# Altium integrated library Actel IGLOO PLUS.IntLib: 96 symbols (part 12 of 12)
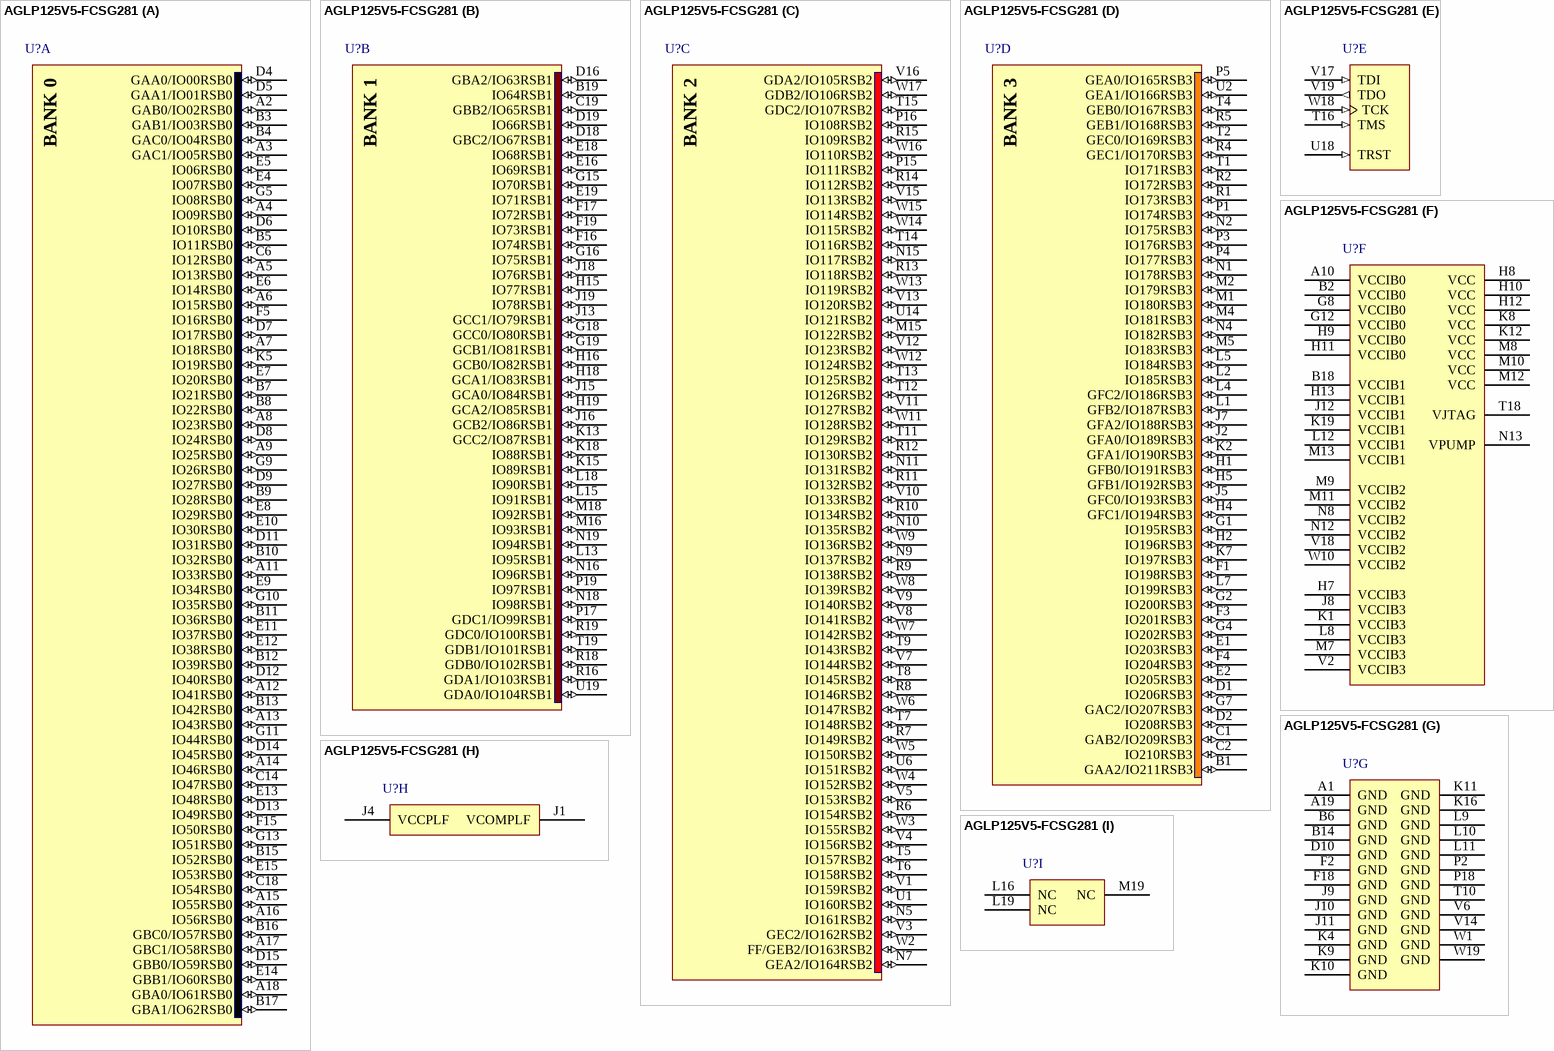
[diagram p75: symbol AGLP125V5-FCSG281]

## AGLP125V5-FCSG281
designator U?
IGLOO PLUS Low-Power Flash 1.5V FPGA with Flash*Freeze, 212 User IOs, 125K System Gates, 1Kbit Flash ROM, 281-Pin CSP, F Speed Grade, Commercial Grade, Pb-Free; ComponentAvailability: F speed grade removed in ver1.5, Apr-2009 datasheet.; Published: 29-May-2009; DatasheetVersion: v1.4, Feb-2009; PackageVersion: ver11.2, Nov-2009; PackageReference: CS281; Publisher: Altium Limited; PackageDescription: 281-Ball Chip Scale Ball Grid Array 0.5 mm Pitch (CS281); Code_JEDEC: MO-195-AG (Depopulated); ComponentLink1Description: IGLOO PLUS Datasheet; ComponentLink1URL: http://www.actel.com/documents/IGLOOPLUS_DS.pdf; ComponentLink2Description: Package Mechanical Drawings; ComponentLink2URL: http://www.actel.com/documents/PckgMechDrwngs.pdf; ComponentLink3Description: IGLOO PLUS Documents; ComponentLink3URL: http://www.actel.com/products/iglooplus/docs.aspx; ComponentLink4Description: Actel.com Home; ComponentLink4URL: http://www.actel.com/
footprint CS281 (BGA, 281-Leads, Body 10x10mm, Pitch 0.5mm)
3D model AGLP125-CS281 (281-Ball Chip Scale Ball Grid Array 0.5 mm Pitch (CS281))
signal-integrity model AGLP125-CS281 (IGLOO PLUS)
part A pins: A2 GAB0/IO02RSB0 (io), A3 GAC1/IO05RSB0 (io), A4 IO09RSB0 (io), A5 IO13RSB0 (io), A6 IO15RSB0 (io), A7 IO18RSB0 (io), A8 IO23RSB0 (io), A9 IO25RSB0 (io), A11 IO33RSB0 (io), A12 IO41RSB0 (io), A13 IO43RSB0 (io), A14 IO46RSB0 (io), A15 IO55RSB0 (io), A16 IO56RSB0 (io), A17 GBC1/IO58RSB0 (io), A18 GBA0/IO61RSB0 (io), B3 GAB1/IO03RSB0 (io), B4 GAC0/IO04RSB0 (io), B5 IO11RSB0 (io), B7 IO21RSB0 (io), B8 IO22RSB0 (io), B9 IO28RSB0 (io), B10 IO32RSB0 (io), B11 IO36RSB0 (io), B12 IO39RSB0 (io), B13 IO42RSB0 (io), B15 IO52RSB0 (io), B16 GBC0/IO57RSB0 (io), B17 GBA1/IO62RSB0 (io), C6 IO12RSB0 (io), C14 IO47RSB0 (io), C18 IO54RSB0 (io), D4 GAA0/IO00RSB0 (io), D5 GAA1/IO01RSB0 (io), D6 IO10RSB0 (io), D7 IO17RSB0 (io), D8 IO24RSB0 (io), D9 IO27RSB0 (io), D11 IO31RSB0 (io), D12 IO40RSB0 (io), D13 IO49RSB0 (io), D14 IO45RSB0 (io), D15 GBB0/IO59RSB0 (io), E4 IO07RSB0 (io), E5 IO06RSB0 (io), E6 IO14RSB0 (io), E7 IO20RSB0 (io), E8 IO29RSB0 (io), E9 IO34RSB0 (io), E10 IO30RSB0 (io), E11 IO37RSB0 (io), E12 IO38RSB0 (io), E13 IO48RSB0 (io), E14 GBB1/IO60RSB0 (io), E15 IO53RSB0 (io), F5 IO16RSB0 (io), F15 IO50RSB0 (io), G5 IO08RSB0 (io), G9 IO26RSB0 (io), G10 IO35RSB0 (io), G11 IO44RSB0 (io), G13 IO51RSB0 (io), K5 IO19RSB0 (io)
part B pins: B19 IO64RSB1 (io), C19 GBB2/IO65RSB1 (io), D16 GBA2/IO63RSB1 (io), D18 GBC2/IO67RSB1 (io), D19 IO66RSB1 (io), E16 IO69RSB1 (io), E18 IO68RSB1 (io), E19 IO71RSB1 (io), F16 IO74RSB1 (io), F17 IO72RSB1 (io), F19 IO73RSB1 (io), G15 IO70RSB1 (io), G16 IO75RSB1 (io), G18 GCC0/IO80RSB1 (io), G19 GCB1/IO81RSB1 (io), H15 IO77RSB1 (io), H16 GCB0/IO82RSB1 (io), H18 GCA1/IO83RSB1 (io), H19 GCA2/IO85RSB1 (io), J13 GCC1/IO79RSB1 (io), J15 GCA0/IO84RSB1 (io), J16 GCB2/IO86RSB1 (io), J18 IO76RSB1 (io), J19 IO78RSB1 (io), K13 GCC2/IO87RSB1 (io), K15 IO89RSB1 (io), K18 IO88RSB1 (io), L13 IO95RSB1 (io), L15 IO91RSB1 (io), L18 IO90RSB1 (io), M16 IO93RSB1 (io), M18 IO92RSB1 (io), N16 IO96RSB1 (io), N18 IO98RSB1 (io), N19 IO94RSB1 (io), P17 GDC1/IO99RSB1 (io), P19 IO97RSB1 (io), R16 GDA1/IO103RSB1 (io), R18 GDB0/IO102RSB1 (io), R19 GDC0/IO100RSB1 (io), T19 GDB1/IO101RSB1 (io), U19 GDA0/IO104RSB1 (io)
part C pins: M15 IO122RSB2 (io), N5 IO161RSB2 (io), N7 GEA2/IO164RSB2 (io), N9 IO137RSB2 (io), N10 IO135RSB2 (io), N11 IO131RSB2 (io), N15 IO117RSB2 (io), P15 IO111RSB2 (io), P16 IO108RSB2 (io), R6 IO154RSB2 (io), R7 IO149RSB2 (io), R8 IO146RSB2 (io), R9 IO138RSB2 (io), R10 IO134RSB2 (io), R11 IO132RSB2 (io), R12 IO130RSB2 (io), R13 IO118RSB2 (io), R14 IO112RSB2 (io), R15 IO109RSB2 (io), T5 IO157RSB2 (io), T6 IO158RSB2 (io), T7 IO148RSB2 (io), T8 IO145RSB2 (io), T9 IO143RSB2 (io), T11 IO129RSB2 (io), T12 IO126RSB2 (io), T13 IO125RSB2 (io), T14 IO116RSB2 (io), T15 GDC2/IO107RSB2 (io), U1 IO160RSB2 (io), U6 IO151RSB2 (io), U14 IO121RSB2 (io), V1 IO159RSB2 (io), V3 GEC2/IO162RSB2 (io), V4 IO156RSB2 (io), V5 IO153RSB2 (io), V7 IO144RSB2 (io), V8 IO141RSB2 (io), V9 IO140RSB2 (io), V10 IO133RSB2 (io), V11 IO127RSB2 (io), V12 IO123RSB2 (io), V13 IO120RSB2 (io), V15 IO113RSB2 (io), V16 GDA2/IO105RSB2 (io), W2 FF/GEB2/IO163RSB2 (io), W3 IO155RSB2 (io), W4 IO152RSB2 (io), W5 IO150RSB2 (io), W6 IO147RSB2 (io), W7 IO142RSB2 (io), W8 IO139RSB2 (io), W9 IO136RSB2 (io), W11 IO128RSB2 (io), W12 IO124RSB2 (io), W13 IO119RSB2 (io), W14 IO115RSB2 (io), W15 IO114RSB2 (io), W16 IO110RSB2 (io), W17 GDB2/IO106RSB2 (io)
part D pins: B1 GAA2/IO211RSB3 (io), C1 GAB2/IO209RSB3 (io), C2 IO210RSB3 (io), D1 IO206RSB3 (io), D2 IO208RSB3 (io), E1 IO203RSB3 (io), E2 IO205RSB3 (io), F1 IO198RSB3 (io), F3 IO201RSB3 (io), F4 IO204RSB3 (io), G1 IO195RSB3 (io), G2 IO200RSB3 (io), G4 IO202RSB3 (io), G7 GAC2/IO207RSB3 (io), H1 GFB0/IO191RSB3 (io), H2 IO196RSB3 (io), H4 GFC1/IO194RSB3 (io), H5 GFB1/IO192RSB3 (io), J2 GFA0/IO189RSB3 (io), J5 GFC0/IO193RSB3 (io), J7 GFA2/IO188RSB3 (io), K2 GFA1/IO190RSB3 (io), K7 IO197RSB3 (io), L1 GFB2/IO187RSB3 (io), L2 IO185RSB3 (io), L4 GFC2/IO186RSB3 (io), L5 IO184RSB3 (io), L7 IO199RSB3 (io), M1 IO180RSB3 (io), M2 IO179RSB3 (io), M4 IO181RSB3 (io), M5 IO183RSB3 (io), N1 IO178RSB3 (io), N2 IO175RSB3 (io), N4 IO182RSB3 (io), P1 IO174RSB3 (io), P3 IO176RSB3 (io), P4 IO177RSB3 (io), P5 GEA0/IO165RSB3 (io), R1 IO173RSB3 (io), R2 IO172RSB3 (io), R4 GEC1/IO170RSB3 (io), R5 GEB1/IO168RSB3 (io), T1 IO171RSB3 (io), T2 GEC0/IO169RSB3 (io), T4 GEB0/IO167RSB3 (io), U2 GEA1/IO166RSB3 (io)
part E pins: T16 TMS (in), U18 TRST (in), V17 TDI (in), V19 TDO (out), W18 TCK (in)
part F pins: A10 VCCIB0 (power), B2 VCCIB0 (power), B18 VCCIB1 (power), G8 VCCIB0 (power), G12 VCCIB0 (power), H7 VCCIB3 (power), H8 VCC (power), H9 VCCIB0 (power), H10 VCC (power), H11 VCCIB0 (power), H12 VCC (power), H13 VCCIB1 (power), J8 VCCIB3 (power), J12 VCCIB1 (power), K1 VCCIB3 (power), K8 VCC (power), K12 VCC (power), K19 VCCIB1 (power), L8 VCCIB3 (power), L12 VCCIB1 (power), M7 VCCIB3 (power), M8 VCC (power), M9 VCCIB2 (power), M10 VCC (power), M11 VCCIB2 (power), M12 VCC (power), M13 VCCIB1 (power), N8 VCCIB2 (power), N12 VCCIB2 (power), N13 VPUMP (power), T18 VJTAG (power), V2 VCCIB3 (power), V18 VCCIB2 (power), W10 VCCIB2 (power)
part G pins: A1 GND (power), A19 GND (power), B6 GND (power), B14 GND (power), D10 GND (power), F2 GND (power), F18 GND (power), J9 GND (power), J10 GND (power), J11 GND (power), K4 GND (power), K9 GND (power), K10 GND (power), K11 GND (power), K16 GND (power), L9 GND (power), L10 GND (power), L11 GND (power), P2 GND (power), P18 GND (power), T10 GND (power), V6 GND (power), V14 GND (power), W1 GND (power), W19 GND (power)
part H pins: J1 VCOMPLF (power), J4 VCCPLF (power)
part I pins: L16 NC, L19 NC, M19 NC
part A text: BANK 0
part B text: BANK 1
part C text: BANK 2
part D text: BANK 3

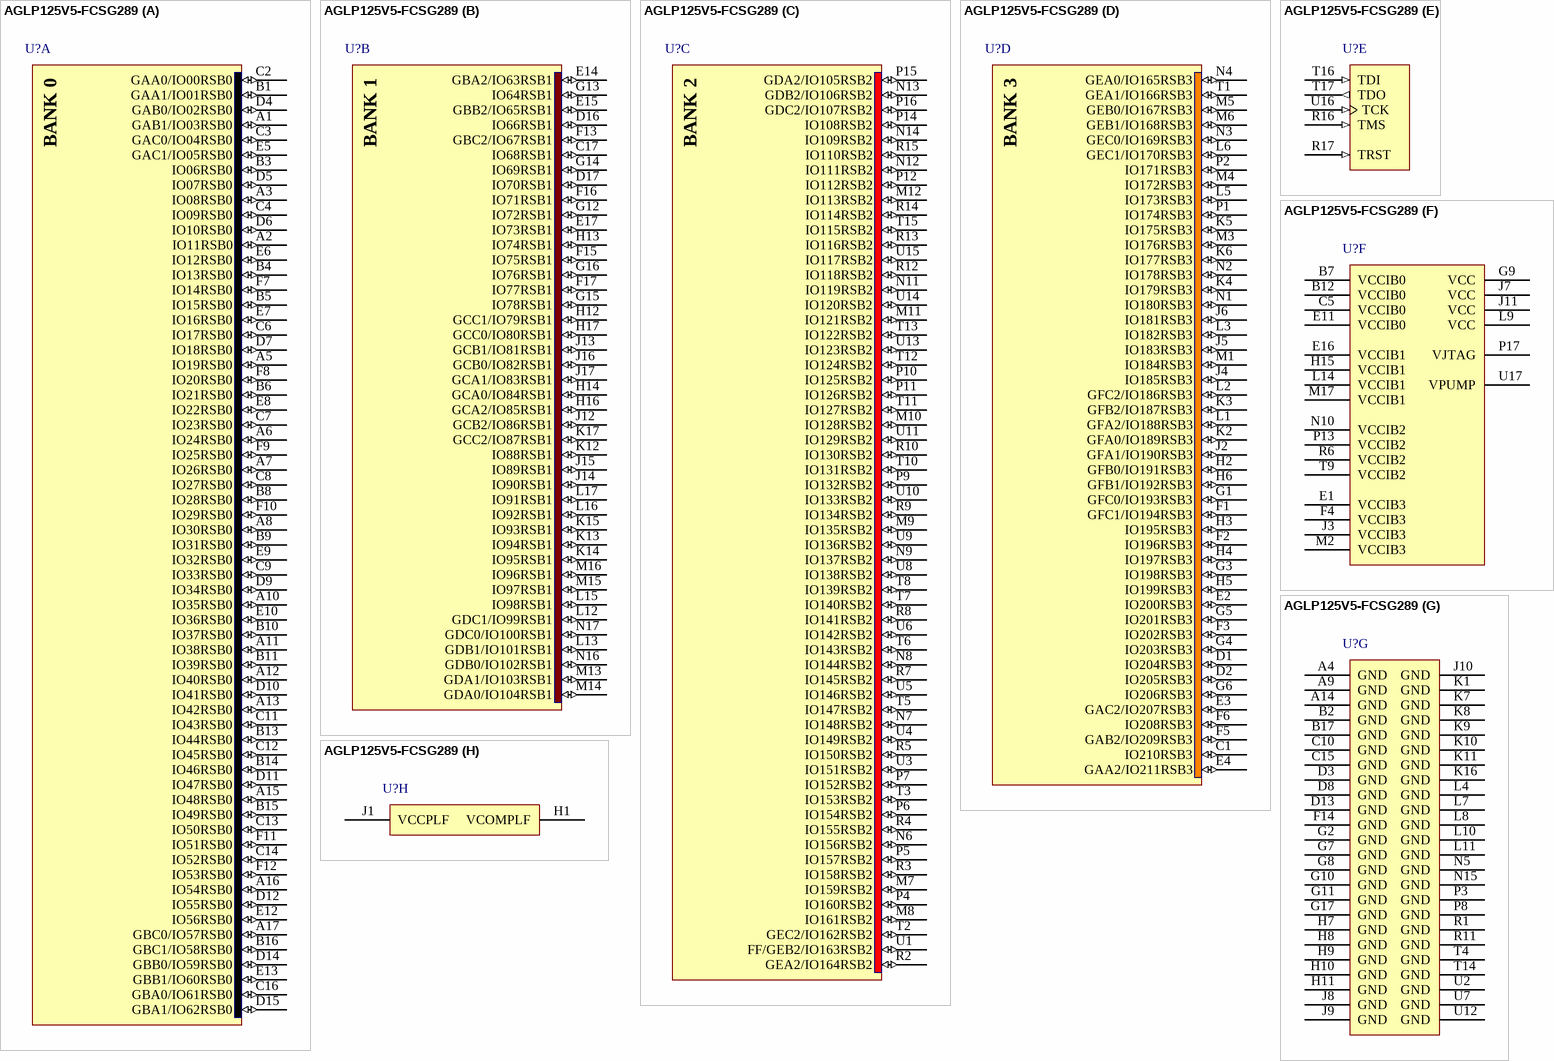
[diagram p64: symbol AGLP125V5-FCSG289]

## AGLP125V5-FCSG289
designator U?
IGLOO PLUS Low-Power Flash 1.5V FPGA with Flash*Freeze, 212 User IOs, 125K System Gates, 1Kbit Flash ROM, 289-Pin CSP, F Speed Grade, Commercial Grade, Pb-Free; ComponentAvailability: F speed grade removed in ver1.5, Apr-2009 datasheet.; Published: 29-May-2009; DatasheetVersion: v1.4, Feb-2009; PackageVersion: ver11.2, Nov-2009; PackageReference: CS289; Publisher: Altium Limited; PackageDescription: 289-Ball Chip Scale Package 0.8 mm Pitch (CS289); ComponentLink1Description: IGLOO PLUS Datasheet; ComponentLink1URL: http://www.actel.com/documents/IGLOOPLUS_DS.pdf; ComponentLink2Description: Package Mechanical Drawings; ComponentLink2URL: http://www.actel.com/documents/PckgMechDrwngs.pdf; ComponentLink3Description: IGLOO PLUS Documents; ComponentLink3URL: http://www.actel.com/products/iglooplus/docs.aspx; ComponentLink4Description: Actel.com Home; ComponentLink4URL: http://www.actel.com/
footprint CS289 (BGA, 289-Leads, Body 14x14mm, Pitch 0.8mm)
3D model AGLP125-CS289 (289-Ball Chip Scale Package 0.8 mm Pitch (CS289))
signal-integrity model AGLP125-CS289 (IGLOO PLUS)
part A pins: A1 GAB1/IO03RSB0 (io), A2 IO11RSB0 (io), A3 IO08RSB0 (io), A5 IO19RSB0 (io), A6 IO24RSB0 (io), A7 IO26RSB0 (io), A8 IO30RSB0 (io), A10 IO35RSB0 (io), A11 IO38RSB0 (io), A12 IO40RSB0 (io), A13 IO42RSB0 (io), A15 IO48RSB0 (io), A16 IO54RSB0 (io), A17 GBC0/IO57RSB0 (io), B1 GAA1/IO01RSB0 (io), B3 IO06RSB0 (io), B4 IO13RSB0 (io), B5 IO15RSB0 (io), B6 IO21RSB0 (io), B8 IO28RSB0 (io), B9 IO31RSB0 (io), B10 IO37RSB0 (io), B11 IO39RSB0 (io), B13 IO44RSB0 (io), B14 IO46RSB0 (io), B15 IO49RSB0 (io), B16 GBC1/IO58RSB0 (io), C2 GAA0/IO00RSB0 (io), C3 GAC0/IO04RSB0 (io), C4 IO09RSB0 (io), C6 IO17RSB0 (io), C7 IO23RSB0 (io), C8 IO27RSB0 (io), C9 IO33RSB0 (io), C11 IO43RSB0 (io), C12 IO45RSB0 (io), C13 IO50RSB0 (io), C14 IO52RSB0 (io), C16 GBA0/IO61RSB0 (io), D4 GAB0/IO02RSB0 (io), D5 IO07RSB0 (io), D6 IO10RSB0 (io), D7 IO18RSB0 (io), D9 IO34RSB0 (io), D10 IO41RSB0 (io), D11 IO47RSB0 (io), D12 IO55RSB0 (io), D14 GBB0/IO59RSB0 (io), D15 GBA1/IO62RSB0 (io), E5 GAC1/IO05RSB0 (io), E6 IO12RSB0 (io), E7 IO16RSB0 (io), E8 IO22RSB0 (io), E9 IO32RSB0 (io), E10 IO36RSB0 (io), E12 IO56RSB0 (io), E13 GBB1/IO60RSB0 (io), F7 IO14RSB0 (io), F8 IO20RSB0 (io), F9 IO25RSB0 (io), F10 IO29RSB0 (io), F11 IO51RSB0 (io), F12 IO53RSB0 (io)
part B pins: C17 IO68RSB1 (io), D16 IO66RSB1 (io), D17 IO70RSB1 (io), E14 GBA2/IO63RSB1 (io), E15 GBB2/IO65RSB1 (io), E17 IO73RSB1 (io), F13 GBC2/IO67RSB1 (io), F15 IO75RSB1 (io), F16 IO71RSB1 (io), F17 IO77RSB1 (io), G12 IO72RSB1 (io), G13 IO64RSB1 (io), G14 IO69RSB1 (io), G15 IO78RSB1 (io), G16 IO76RSB1 (io), H12 GCC1/IO79RSB1 (io), H13 IO74RSB1 (io), H14 GCA0/IO84RSB1 (io), H16 GCA2/IO85RSB1 (io), H17 GCC0/IO80RSB1 (io), J12 GCB2/IO86RSB1 (io), J13 GCB1/IO81RSB1 (io), J14 IO90RSB1 (io), J15 IO89RSB1 (io), J16 GCB0/IO82RSB1 (io), J17 GCA1/IO83RSB1 (io), K12 IO88RSB1 (io), K13 IO94RSB1 (io), K14 IO95RSB1 (io), K15 IO93RSB1 (io), K17 GCC2/IO87RSB1 (io), L12 GDC1/IO99RSB1 (io), L13 GDB1/IO101RSB1 (io), L15 IO98RSB1 (io), L16 IO92RSB1 (io), L17 IO91RSB1 (io), M13 GDA1/IO103RSB1 (io), M14 GDA0/IO104RSB1 (io), M15 IO97RSB1 (io), M16 IO96RSB1 (io), N16 GDB0/IO102RSB1 (io), N17 GDC0/IO100RSB1 (io)
part C pins: M7 IO159RSB2 (io), M8 IO161RSB2 (io), M9 IO135RSB2 (io), M10 IO128RSB2 (io), M11 IO121RSB2 (io), M12 IO113RSB2 (io), N6 IO156RSB2 (io), N7 IO148RSB2 (io), N8 IO144RSB2 (io), N9 IO137RSB2 (io), N11 IO119RSB2 (io), N12 IO111RSB2 (io), N13 GDB2/IO106RSB2 (io), N14 IO109RSB2 (io), P4 IO160RSB2 (io), P5 IO157RSB2 (io), P6 IO154RSB2 (io), P7 IO152RSB2 (io), P9 IO132RSB2 (io), P10 IO125RSB2 (io), P11 IO126RSB2 (io), P12 IO112RSB2 (io), P14 IO108RSB2 (io), P15 GDA2/IO105RSB2 (io), P16 GDC2/IO107RSB2 (io), R2 GEA2/IO164RSB2 (io), R3 IO158RSB2 (io), R4 IO155RSB2 (io), R5 IO150RSB2 (io), R7 IO145RSB2 (io), R8 IO141RSB2 (io), R9 IO134RSB2 (io), R10 IO130RSB2 (io), R12 IO118RSB2 (io), R13 IO116RSB2 (io), R14 IO114RSB2 (io), R15 IO110RSB2 (io), T2 GEC2/IO162RSB2 (io), T3 IO153RSB2 (io), T5 IO147RSB2 (io), T6 IO143RSB2 (io), T7 IO140RSB2 (io), T8 IO139RSB2 (io), T10 IO131RSB2 (io), T11 IO127RSB2 (io), T12 IO124RSB2 (io), T13 IO122RSB2 (io), T15 IO115RSB2 (io), U1 FF/GEB2/IO163RSB2 (io), U3 IO151RSB2 (io), U4 IO149RSB2 (io), U5 IO146RSB2 (io), U6 IO142RSB2 (io), U8 IO138RSB2 (io), U9 IO136RSB2 (io), U10 IO133RSB2 (io), U11 IO129RSB2 (io), U13 IO123RSB2 (io), U14 IO120RSB2 (io), U15 IO117RSB2 (io)
part D pins: C1 IO210RSB3 (io), D1 IO204RSB3 (io), D2 IO205RSB3 (io), E2 IO200RSB3 (io), E3 GAC2/IO207RSB3 (io), E4 GAA2/IO211RSB3 (io), F1 GFC1/IO194RSB3 (io), F2 IO196RSB3 (io), F3 IO202RSB3 (io), F5 GAB2/IO209RSB3 (io), F6 IO208RSB3 (io), G1 GFC0/IO193RSB3 (io), G3 IO198RSB3 (io), G4 IO203RSB3 (io), G5 IO201RSB3 (io), G6 IO206RSB3 (io), H2 GFB0/IO191RSB3 (io), H3 IO195RSB3 (io), H4 IO197RSB3 (io), H5 IO199RSB3 (io), H6 GFB1/IO192RSB3 (io), J2 GFA1/IO190RSB3 (io), J4 IO185RSB3 (io), J5 IO183RSB3 (io), J6 IO181RSB3 (io), K2 GFA0/IO189RSB3 (io), K3 GFB2/IO187RSB3 (io), K4 IO179RSB3 (io), K5 IO175RSB3 (io), K6 IO177RSB3 (io), L1 GFA2/IO188RSB3 (io), L2 GFC2/IO186RSB3 (io), L3 IO182RSB3 (io), L5 IO173RSB3 (io), L6 GEC1/IO170RSB3 (io), M1 IO184RSB3 (io), M3 IO176RSB3 (io), M4 IO172RSB3 (io), M5 GEB0/IO167RSB3 (io), M6 GEB1/IO168RSB3 (io), N1 IO180RSB3 (io), N2 IO178RSB3 (io), N3 GEC0/IO169RSB3 (io), N4 GEA0/IO165RSB3 (io), P1 IO174RSB3 (io), P2 IO171RSB3 (io), T1 GEA1/IO166RSB3 (io)
part E pins: R16 TMS (in), R17 TRST (in), T16 TDI (in), T17 TDO (out), U16 TCK (in)
part F pins: B7 VCCIB0 (power), B12 VCCIB0 (power), C5 VCCIB0 (power), E1 VCCIB3 (power), E11 VCCIB0 (power), E16 VCCIB1 (power), F4 VCCIB3 (power), G9 VCC (power), H15 VCCIB1 (power), J3 VCCIB3 (power), J7 VCC (power), J11 VCC (power), L9 VCC (power), L14 VCCIB1 (power), M2 VCCIB3 (power), M17 VCCIB1 (power), N10 VCCIB2 (power), P13 VCCIB2 (power), P17 VJTAG (power), R6 VCCIB2 (power), T9 VCCIB2 (power), U17 VPUMP (power)
part G pins: A4 GND (power), A9 GND (power), A14 GND (power), B2 GND (power), B17 GND (power), C10 GND (power), C15 GND (power), D3 GND (power), D8 GND (power), D13 GND (power), F14 GND (power), G2 GND (power), G7 GND (power), G8 GND (power), G10 GND (power), G11 GND (power), G17 GND (power), H7 GND (power), H8 GND (power), H9 GND (power), H10 GND (power), H11 GND (power), J8 GND (power), J9 GND (power), J10 GND (power), K1 GND (power), K7 GND (power), K8 GND (power), K9 GND (power), K10 GND (power), K11 GND (power), K16 GND (power), L4 GND (power), L7 GND (power), L8 GND (power), L10 GND (power), L11 GND (power), N5 GND (power), N15 GND (power), P3 GND (power), P8 GND (power), R1 GND (power), R11 GND (power), T4 GND (power), T14 GND (power), U2 GND (power), U7 GND (power), U12 GND (power)
part H pins: H1 VCOMPLF (power), J1 VCCPLF (power)
part A text: BANK 0
part B text: BANK 1
part C text: BANK 2
part D text: BANK 3